# Altium schematic symbol library BD911.Schlib: 1 symbol
Pins are listed as number, name and electrical type; pins without a type are passive.

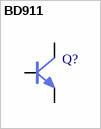
[diagram p0: symbol BD911]

## BD911
designator Q?  (value not drawn)
pins: 1 B, 2 C, 3 E